# Altium schematic symbol library Diode.SchLib: 5 symbols
Pins are listed as number, name and electrical type; pins without a type are passive.

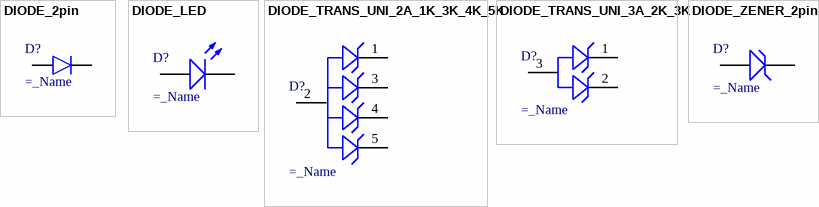
[diagram p0: symbols DIODE_2pin to DIODE_ZENER_2pin]

## DIODE_2pin
designator D?  (value not drawn)
=description; Value: =_Name
pins: 1 A, 2 K

## DIODE_LED
designator D?  (value not drawn)
=description; Value: =_Name
pins: 1 A, 2 K

## DIODE_TRANS_UNI_2A_1K_3K_4K_5K
designator D?  (value not drawn)
=description; Value: =_Name
pins: 1 IO1, 2 GND, 3 IO2, 4 IO3, 5 IO4

## DIODE_TRANS_UNI_3A_2K_3K
designator D?  (value not drawn)
=description; Value: =_Name
pins: 1 K1, 2 K2, 3 A

## DIODE_ZENER_2pin
designator D?  (value not drawn)
=description; Value: =_Name
pins: 1 A, 2 K